# EAGLE library part X9C104P (library X9C104P)
Digitally Controlled Potentiometer Check availability <https://pricing.snapeda.com/parts/X9C104P/Renesas%20Electronics%20America%20Inc/view-part?ref=eda>
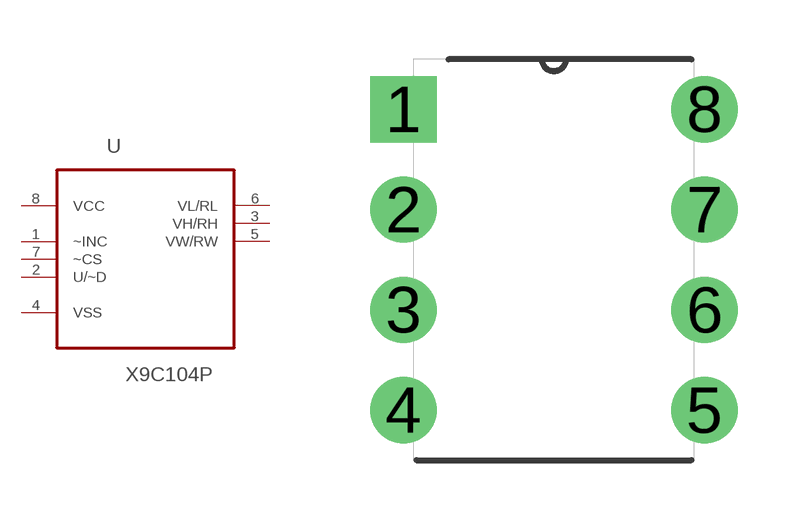
[diagram p0: symbol with the pads of DIP254P762X533-8; footprint DIP254P762X533-8]

Designator prefix U

## X9C104P (Availability: In Stock; Description: Digital Potentiometer 100k Ohm 1 Circuit 100 Taps Up/Down (U/D, INC, CS) Interface 8-PDIP; MF: Renesas Electronics America Inc; MP: X9C104P; Package: DIP-8 Renesas / Intersil; Price: None; Purchase-URL: https://pricing.snapeda.com/search/part/X9C104P/?ref=eda)  [DIP254P762X533-8]
1  ~INC  in
2  U/~D  in
3  VH/RH  pas
4  VSS  pas
5  VW/RW  pas
6  VL/RL  pas
7  ~CS  in
8  VCC  pwr

## Footprint DIP254P762X533-8 (pad centres in mm)
drill 1.118 square: 1 -7.62,7.62
drill 1.118: 2 -7.62,5.08; 3 -7.62,2.54; 4 -7.62,0; 5 0,0; 6 0,2.54; 7 0,5.08; 8 0,7.62